# EAGLE library part NJM2903* (library mita-akiba)
Dual Comparator VCC: 2-36V Open Collector Output 3mA MAX (2403: 15mA) Typical Load Resistance:5.1kΩ Output Delay:1μs
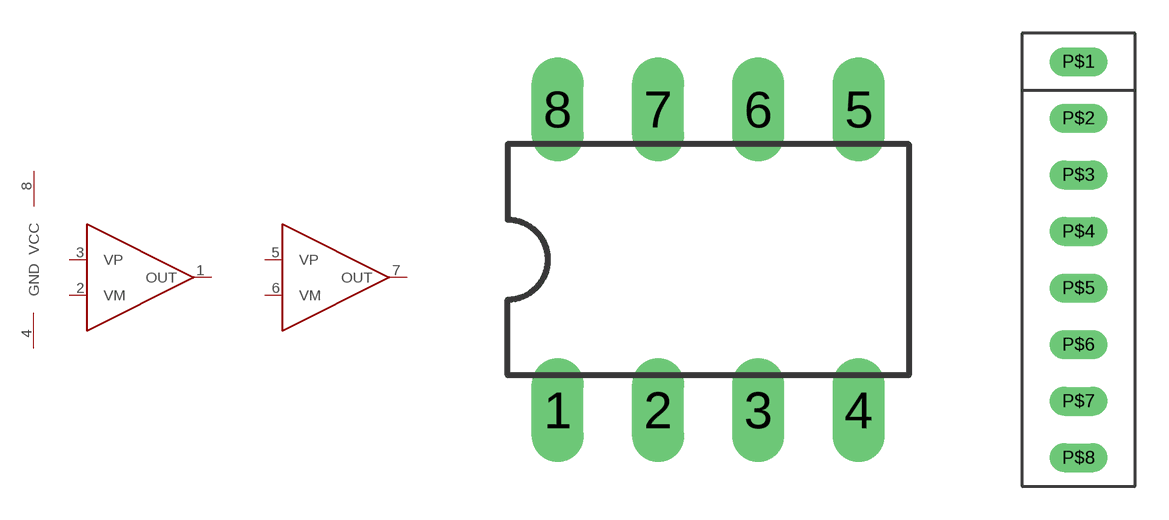
[diagram p48: symbol with the pads of DIL08; footprints DIL08, SIL8P]

Designator prefix -; gates G$1=VCCGND G$2=OPAMP G$3=OPAMP

## NJM2903D  [DIL08]
1  G$2:OUT
2  G$2:VM
3  G$2:VP
4  G$1:GND  pwr
5  G$3:VP
6  G$3:VM
7  G$3:OUT
8  G$1:VCC  pwr

## NJM2903L  [SIL8P]
P$1  G$2:OUT
P$2  G$2:VM
P$3  G$2:VP
P$4  G$1:GND  pwr
P$5  G$3:VP
P$6  G$3:VM
P$7  G$3:OUT
P$8  G$1:VCC  pwr

## Footprint DIL08 (pad centres in mm)
Dual In Line Package
drill 0.813 long: 1 -3.81,-3.81; 2 -1.27,-3.81; 3 1.27,-3.81; 4 3.81,-3.81; 5 3.81,3.81; 6 1.27,3.81; 7 -1.27,3.81; 8 -3.81,3.81

## Footprint SIL8P (pad centres in mm)
drill 0.8 long: P$1 0,10.16; P$2 0,7.62; P$3 0,5.08; P$4 0,2.54; P$5 0,0; P$6 0,-2.54; P$7 0,-5.08; P$8 0,-7.62